# Altium footprint library Personal Library (Z7V9G2@u.northwestern.edu 2).PcbLib: 21 footprints (part 1 of 2)
Each footprint in its own frame and in the unit in brackets; x right, y up, seen from the top. Pads: shape width x height; smd on the part's side, far side on the other; paste and mask are expansions set on the pad; w line width, h text height; cw(c..) or ccw(c..) is an arc to the next point about the centre after c.
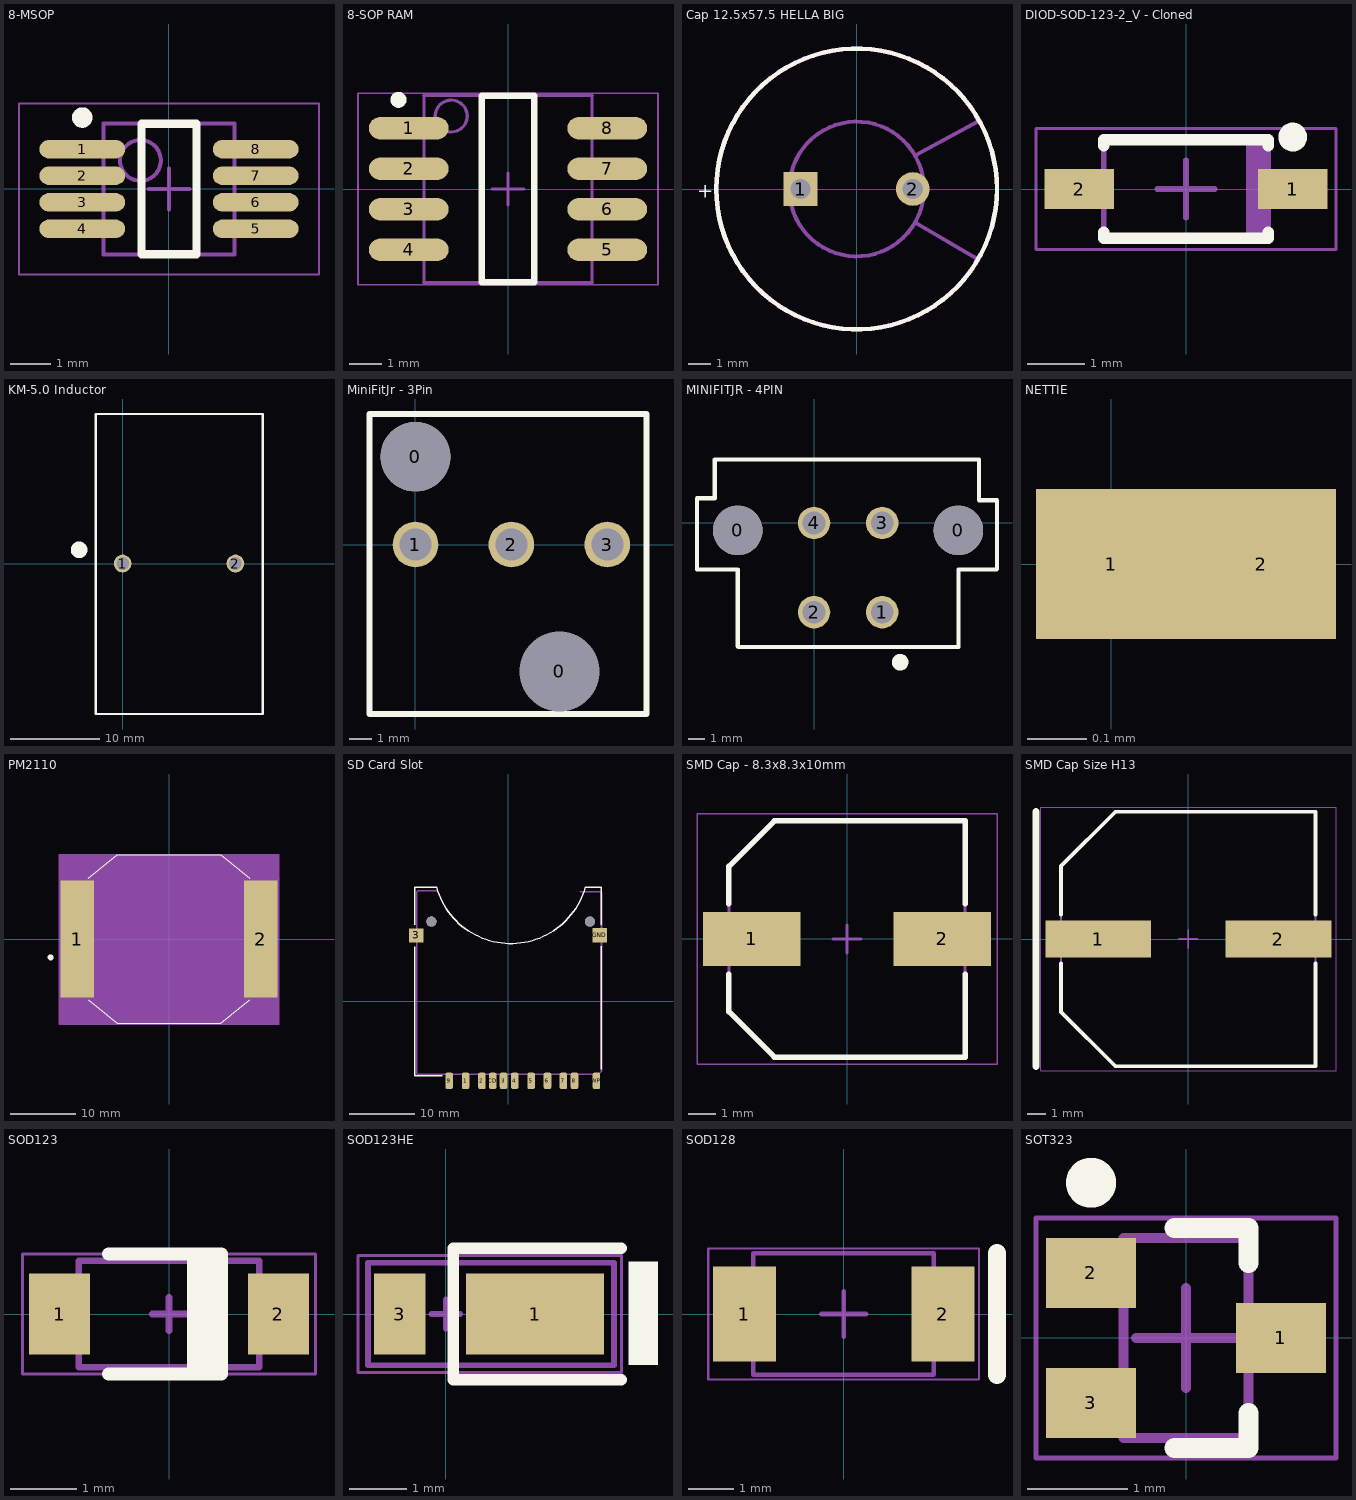
[diagram p0: the footprints below, top view; thin cyan lines are the x and y axes]

## 8-MSOP [mm] "SOP, 8-Leads, Body 3x3mm, Pitch 0.65mm, IPC Low Density"
height 1.1
pads (8):
  oval 2.1x0.45 smd: 1(-2.125,0.975) 2(-2.125,0.325) 3(-2.125,-0.325) 4(-2.125,-0.975) 5(2.125,-0.975) 6(2.125,-0.325) 7(2.125,0.325) 8(2.125,0.975)
Top Overlay:
  circle w0.25: c-2.125,1.75 r0.125
  lines w0.2: -0.675,-1.6 0.675,-1.6 0.675,1.6 -0.675,1.6 -0.675,-1.6
Mechanical 13:
  circle w0.1: c-0.7,0.7 r0.5
  lines w0.1: -1.6,-1.6 1.6,-1.6 1.6,1.6 -1.6,1.6 -1.6,-1.6
Mechanical 15:
  lines w0.05: -3.675,-2.1 3.675,-2.1 3.675,2.1 -3.675,2.1 -3.675,-2.1
  lines w0.1: -0.5,0 0.5,0 ; 0,-0.5 0,0.5
3D body: height 1.1, standoff 0, extent -1.6,-1.6 1.6,1.6

## 8-SOP RAM [mm] "SOP, 8-Leads, Body 5.3x5.85mm, Pitch 1.27mm, IPC Low Density"
height 1.75
pads (8):
  oval 2.5x0.7 smd: 1(-3.11,1.905) 2(-3.11,0.635) 3(-3.11,-0.635) 4(-3.11,-1.905) 5(3.11,-1.905) 6(3.11,-0.635) 7(3.11,0.635) 8(3.11,1.905)
Top Overlay:
  circle w0.25: c-3.429,2.794 r0.125
  lines w0.2: -0.825,-2.925 0.825,-2.925 0.825,2.925 -0.825,2.925 -0.825,-2.925
Mechanical 13:
  circle w0.1: c-1.778,2.286 r0.5
  lines w0.1: -2.65,-2.925 2.65,-2.925 ; -2.65,2.925 2.65,2.925 ; -2.635,-2.925 -2.635,2.921 ; 2.635,-2.925 2.635,2.925
Mechanical 15:
  lines w0.05: -4.699,-3 4.699,-3 4.699,3 -4.699,3 -4.699,-3
  lines w0.1: -0.5,0 0.5,0 ; 0,-0.5 0,0.5
3D body: height 1.5, standoff 0.18, extent -2.667,-2.921 2.667,2.921

## Cap 12.5x57.5 HELLA BIG [mm] "Capacitor, Electrolytic, Radial; Body 12.5 x 57.5 mm (Dia.xH typ); Pin Spacing 5 mm (typ)"
height 58
pads (2):
  rect 1.5x1.5 hole 0.9: 1(-2.5,0)
  round 1.5 hole 0.9: 2(2.5,0)
Top Overlay:
  circle w0.2: c0,0 r6.25
  text "+" at -7.112,-0.381 h0.64
Mechanical 5:
  circle w0.2: c0,0 r6.25
  text "+" at -7.112,-0.381 h0.64
  text ".Designator" at -7.366,1.27 h0.64
Mechanical 13:
  circle w0.178: c2.5,0 r0.3
  circle w0.178: c-2.5,0 r0.3
  circle w0.178: c0,0 r3
  lines w0.178: 2.623,-1.5 5.277,-3.055 ; 2.623,1.5 5.461,3.048 ; 4.977,3.78 ccw(c0,0) 5.054,-3.678
3D body: height 1, standoff -2.54, extent 2.201,-0.299 2.799,0.299
3D body: height 1, standoff -2.54, extent -2.799,-0.299 -2.201,0.299
3D body: height 57.5, standoff 0, extent -2.999,-2.999 2.999,2.999
3D body: height 57.5, standoff 0, extent 2.597,-3.089 6.162,3.09
3D body: height 57.5, standoff 0, extent -6.226,-6.181 5.3,6.187

## DIOD-SOD-123-2_V - Cloned [mm] "SOD-123, 2-Leads, Body 2.85x1.7mm (max), Pitch 3.7mm"
height 1.45
pads (2):
  rect 1.2x0.7 smd: 1(1.85,0) 2(-1.85,0)
Top Overlay:
  circle w0.25: c1.85,0.9 r0.125
  lines w0.2: -1.425,-0.75 -1.425,-0.85 1.425,-0.85 1.425,-0.75 ; -1.425,0.75 -1.425,0.85 1.425,0.85 1.425,0.75
Mechanical 13:
  rectangle: 1.042,-0.85 1.425,0.85
  lines w0.1: -1.425,-0.85 -1.425,0.85 1.425,0.85 1.425,-0.85 -1.425,-0.85
Mechanical 15:
  lines w0.05: -2.6,-1.05 -2.6,1.05 2.6,1.05 2.6,-1.05 -2.6,-1.05
  lines w0.1: -0.5,0 0.5,0 ; 0,-0.5 0,0.5
3D body: height 1.45, standoff 0, extent -1.425,-0.85 1.425,0.85

## KM-5.0 Inductor [mm] "KM-5.0 Inductor, 35.5mm height, 32.02x18.03mm"
height 35.6
pads (2):
  round 2 hole 1.42: 1(0,0) 2(12.7,0)
Top Overlay:
  circle w1: c-4.902,1.549 r0.431
  lines w0.254: -3.023,-16.942 15.773,-16.942 15.773,16.84 -3.023,16.84 -3.023,-16.942
3D body: height 35.56, standoff 3, extent -2.616,-16.332 15.342,16.383

## MiniFitJr - 3Pin [mm]
height 12.45
pads (5):
  round 3.05 hole 3.05: 0(0,3.85)
  round 3.05 hole 3.5: 0(6.3,-5.55)
  round 2 hole 1.4: 1(0,0) 2(4.2,0) 3(8.4,0)
Top Overlay:
  lines w0.254: -2.007,-7.417 10.109,-7.417 10.109,5.715 6.071,5.715 -0.584,5.715 -2.007,5.715 -2.007,-7.417
3D body "039302031.stp": height 12.45, standoff -3.5, extent -2.624,-6.668 11.176,4.89
3D body: height 0.25, standoff 0, extent 0.61,-5.004 0.61,-5.004
3D body: height 0.25, standoff 0, extent 0.127,-5.817 0.127,-5.817
3D body: height 0.25, standoff 0, extent 4.623,2.87 4.623,2.87

## MINIFITJR - 4PIN [mm]
height 12.8
pads (6):
  round 3.05 hole 3.05: 0(-4.7,-0.46) 0(8.9,-0.46)
  round 2 hole 1.4: 1(4.2,-5.5) 2(0,-5.5) 3(4.2,0) 4(0,0)
Top Overlay:
  circle w0.254: c5.309,-8.585 r0.076
  circle w0.254: c5.309,-8.585 r0.218
  circle w0.254: c5.309,-8.585 r0.388
  lines w0.254: -7.214,1.499 -7.214,-2.87 -4.699,-2.87 ; -7.214,1.524 -6.121,1.524 -6.121,3.912 10.16,3.912 10.16,1.397 ; -4.7,-2.87 -4.7,-7.594 -4.674,-7.62 ; -4.674,-7.645 8.9,-7.645 ; 8.9,-7.635 8.9,-2.87 11.252,-2.87 11.278,-2.845 11.278,1.397 10.185,1.397
3D body: height 0.25, standoff 0, extent 4.623,2.87 4.623,2.87
3D body: height 0.25, standoff 0, extent 0.127,-5.817 0.127,-5.817
3D body: height 0.25, standoff 0, extent 0.61,-5.004 0.61,-5.004
3D body "MiniFitJr4.stp": height 12.8, standoff -3.5, extent -6.131,-7.721 10.247,3.279

## NETTIE [mil] "NETTIEBITCH"
pads (2):
  rect 10x10 smd mask+10: 1(0,0)
  rect 10x10 smd: 2(10,0)
Top Layer:
  lines w10: 0,0 10,0

## PM2110 [mm] "Inductor"
pads (2):
  rect 5.08x17.78 smd paste+0 mask+0: 1(-13.97,0) 2(13.97,0)
Top Overlay:
  circle w0.762: c-18.034,-2.794 r0.076
  lines w0.152: -12.271,-9.223 -7.874,-12.827 7.874,-12.827 12.271,-9.223 ; -12.271,9.223 -7.874,12.827 7.874,12.827 12.271,9.223
Mechanical 13:
  circle w0: c-15.113,0 r0.076
  lines w0.025: -15.494,-6.35 -15.494,6.35 -7.747,12.7 7.747,12.7 15.494,6.35 15.494,-6.35 7.747,-12.7 -7.747,-12.7 -15.494,-6.35
Mechanical 15:
  region: -16.764,-9.144 -16.764,9.144 -11.938,12.954 11.938,12.954 16.764,9.144 16.764,-9.144 11.938,-12.954 -11.938,-12.954
  region: 16.764,-12.954 -16.764,-12.954 -16.764,12.954 16.764,12.954
  lines w0.152: -16.764,-12.954 16.764,-12.954 16.764,12.954 -16.764,12.954 -16.764,-12.954 ; -16.764,-9.144 -11.938,-12.954 11.938,-12.954 16.764,-9.144 16.764,9.144 11.938,12.954 -11.938,12.954 -16.764,9.144 -16.764,-9.144
3D body: height 15.24, standoff 0.1, extent -15.113,-12.7 15.621,12.7
3D body: height 0.25, standoff 0, extent 0,0 0.254,0.254

## SD Card Slot [mm] "SD Card Socket"
pads (15):
  rrect50% 1.16x2.5 smd: 1(-6.48,-12.15) 2(-3.98,-12.15) 3(-0.68,-12.15) 4(1.03,-12.15) 5(3.53,-12.15) 6(6.03,-12.15) 7(8.45,-12.15) 8(10.15,-12.15) 9(-8.98,-12.15) CD(-2.33,-12.15) WP(13.5,-12.15)
  rect 2.2x2.134 smd: 3(-14,10.05)
  rect 2.2x2.2 smd: GND(14,10.05)
  round 1.55 hole 1.55 unplated: MH1(12.5,12.15) MH2(-11.7,12.15)
Top Overlay:
  lines w0.2: -14.22,8.3 -14.22,-11.4 -10,-11.4 ; -14.22,11.7 -14.22,17.391 -14.216,17.396 -10.915,17.396 ccw(c0.441,20.6) 11.799,17.4 14.22,17.4 14.22,11.7 ; 14.22,-10.4 14.22,8.4
Mechanical 1:
  lines w0.254: -13.848,-11.146 13.813,-11.146
Mechanical 13:
  lines w0.254: -13.919,-11.024 -13.919,16.662 -13.716,16.866 -10.871,16.866 ; 11.024,16.739 14.122,16.739 14.275,16.586 14.275,-10.684 13.813,-11.146
3D body: height 2.38, standoff 0, extent 13.105,-12.426 13.303,-11.468
3D body: height 2.4, standoff 2, extent 13.108,-12.426 13.299,-9.243
3D body: height 2.4, standoff 2, extent 9.826,-11.996 10.419,-8.813
3D body: height 2.38, standoff 0, extent 9.826,-11.996 10.419,-11.375
3D body: height 0.3, standoff 0, extent 9.831,-12.476 10.419,-11.558
3D body: height 2.4, standoff 2, extent 8.189,-11.996 8.782,-8.813
3D body: height 2.38, standoff 0, extent 8.189,-11.996 8.782,-11.375
3D body: height 0.3, standoff 0, extent 8.194,-12.476 8.782,-11.558
3D body: height 2.4, standoff 2, extent 5.726,-12.055 6.319,-8.872
3D body: height 2.38, standoff 0, extent 5.726,-12.055 6.319,-11.434
3D body: height 0.3, standoff 0, extent 5.731,-12.535 6.319,-11.617
3D body: height 2.4, standoff 2, extent 3.174,-12.055 3.767,-8.872
3D body: height 2.38, standoff 0, extent 3.174,-12.055 3.767,-11.434
3D body: height 0.3, standoff 0, extent 3.179,-12.535 3.767,-11.617
3D body: height 2.4, standoff 2, extent 0.741,-12.084 1.334,-8.901
3D body: height 2.38, standoff 0, extent 0.741,-12.084 1.334,-11.463
3D body: height 0.3, standoff 0, extent 0.746,-12.564 1.334,-11.646
3D body: height 2.4, standoff 2, extent -0.941,-12.099 -0.348,-8.916
3D body: height 2.38, standoff 0, extent -0.941,-12.099 -0.348,-11.478
3D body: height 0.3, standoff 0, extent -0.936,-12.579 -0.348,-11.661
3D body: height 2.4, standoff 2, extent -2.578,-12.261 -1.985,-9.078
3D body: height 2.38, standoff 0, extent -2.578,-12.261 -1.985,-11.64
3D body: height 0.3, standoff 0, extent -2.573,-12.741 -1.985,-11.823
3D body: height 2.4, standoff 2, extent -4.274,-12.114 -3.681,-8.931
3D body: height 2.38, standoff 0, extent -4.274,-12.114 -3.681,-11.493
3D body: height 0.3, standoff 0, extent -4.269,-12.594 -3.681,-11.676
3D body: height 2.4, standoff 2, extent -6.737,-12.158 -6.144,-8.975
3D body: height 2.38, standoff 0, extent -6.737,-12.158 -6.144,-11.537
3D body: height 0.3, standoff 0, extent -6.732,-12.638 -6.144,-11.72
3D body: height 2.8, standoff 0, extent 13.997,-9.117 14.222,-8.169
3D body: height 2.8, standoff 0, extent -14.316,9.408 -14,10.435
3D body: height 2.8, standoff 0, extent 13.79,8.869 14.214,11.321
3D body: height 2, standoff 0, extent -13.854,7.771 -13.597,16.285
3D body: height 2.9, standoff 0, extent -13.864,-11.131 -13.459,7.804
3D body: height 2.9, standoff 0, extent -6.383,-11.215 -1.965,-9.929
3D body: height 2.9, standoff 0, extent 1.13,-11.166 4.663,-9.85
3D body: height 2.9, standoff 0, extent 8.812,-11.288 13.049,-9.658
3D body: height 2.8, standoff 0, extent -13.519,-11.146 13.951,-10.009
3D body: height 2, standoff 0.3, extent 13.952,-8.17 14.319,16.403
3D body: height 0.3, standoff 0, extent -9.258,-12.602 -8.67,-11.684
3D body: height 2.38, standoff 0, extent -9.263,-12.122 -8.67,-11.501
3D body: height 2.4, standoff 2, extent -9.263,-12.122 -8.67,-8.939
3D body: height 0.3, standoff 0, extent 13.108,-12.406 13.954,-11.463
3D body "SD card.stp": height 2.23, standoff 0.13, extent -12.088,-10.471 11.912,21.529
3D body: height 0.89, standoff 0.03, extent -13.959,-11.026 14.159,16.685
3D body: height 2.9, standoff 2.59, extent -13.97,-10.871 14.402,17.018

## SMD Cap - 8.3x8.3x10mm [mm] "Aluminum Electrolytic Capacitor, Body 8.5x8.5x10.80mm, IPC High Density"
height 10.8
pads (2):
  rect 3.5x1.95 smd: 1(-3.425,0) 2(3.425,0)
Top Overlay:
  lines w0.2: -4.25,-1.275 -4.25,-2.613 -2.612,-4.25 4.25,-4.25 4.25,-1.275 ; -4.25,1.275 -4.25,2.612 -2.612,4.25 4.25,4.25 4.25,1.275
Mechanical 13:
  lines w0.1: -4.25,-2.613 -2.612,-4.25 4.25,-4.25 4.25,4.25 -2.612,4.25 -4.25,2.612 -4.25,-2.613
Mechanical 15:
  lines w0.05: -5.4,-4.5 -5.4,4.5 5.4,4.5 5.4,-4.5 -5.4,-4.5
  lines w0.1: -0.5,0 0.5,0 ; 0,-0.5 0,0.5
3D body "CAPAE9383X108L.step": height 10.8, standoff 0, extent -4.65,-4.25 4.65,4.25

## SMD Cap Size H13 [mm] "CAPAE, 2-Leads, Body 13.70x13.70mm"
height 14
pads (2):
  rect 5.7x2 smd: 1(-4.85,0) 2(4.85,0)
Top Overlay:
  lines w0.2: -6.85,-1.3 -6.85,-3.925 -3.925,-6.85 6.85,-6.85 6.85,-1.3 ; -6.85,1.3 -6.85,3.925 -3.925,6.85 6.85,6.85 6.85,1.3
  lines w0.4: -8.2,-6.85 -8.2,6.85
Mechanical 13:
  lines w0.1: -6.85,-3.925 -3.925,-6.85 6.85,-6.85 6.85,6.85 -3.925,6.85 -6.85,3.925 -6.85,-3.925
Mechanical 15:
  lines w0.05: -7.95,-7.1 -7.95,7.1 7.95,7.1 7.95,-7.1 -7.95,-7.1
  lines w0.1: -0.5,0 0.5,0 ; 0,-0.5 0,0.5
3D body "CAPAE150135X140L.step": height 14, standoff 0, extent -7.5,-6.85 7.5,6.85

## SOD123 [mil] "SOD123, 2-Leads, Body 2.7x1.6mm, Height 1.35mm"
height 53.15
pads (2):
  rect 35.98x47.99 smd: 1(-64.5,0) 2(64.5,0)
Top Overlay:
  rectangle: 10.75,-35.43 30.75,35.43
  lines w7.87: -35.67,-35.43 30.75,-35.43 30.75,35.43 -35.67,35.43
Mechanical 13:
  lines w3.94: -53.15,-31.5 -53.15,31.5 53.15,31.5 53.15,-31.5 -53.15,-31.5
Mechanical 15:
  lines w1.97: -86.42,-35.43 -86.42,35.43 86.42,35.43 86.42,-35.43 -86.42,-35.43
  lines w3.94: -9.84,0 9.84,0 ; 0,-9.84 0,9.84
3D body: height 53.15, standoff 0, extent -53.15,-31.5 53.15,31.5

## SOD123HE [mm] "SOD123, 2-Leads, Body 2.7x1.6mm, Height 1.35mm"
height 1.35
pads (2):
  rect 2.4x1.4 smd: 1(1.55,0)
  rect 0.9x1.4 smd: 3(-0.8,0)
Top Overlay:
  rectangle: 3.175,-0.889 3.683,0.911
  lines w0.2: 3.048,-1.143 0.127,-1.143 0.127,1.143 3.048,1.143
Mechanical 13:
  lines w0.1: -1.35,-0.889 2.921,-0.889 2.921,0.889 -1.35,0.889 -1.35,-0.889
Mechanical 15:
  lines w0.05: -1.524,-1.016 3.048,-1.016 3.048,1.016 -1.524,1.016 -1.524,-1.016
  lines w0.1: -0.25,0 0.25,0 ; 0,-0.25 0,0.25
3D body: height 0.75, standoff 0, extent -1.143,-0.908 2.54,0.908

## SOD128 [mm] "SOD128, 2-Leads, Body 2.7x4mm"
height 1.1
pads (2):
  rect 1.4x2.1 smd: 1(-2.2,0) 2(2.2,0)
Top Overlay:
  lines w0.4: 3.4,-1.35 3.4,1.35
Mechanical 13:
  lines w0.1: -2,-1.35 2,-1.35 2,1.35 -2,1.35 -2,-1.35
Mechanical 15:
  lines w0.05: -3,-1.45 3,-1.45 3,1.45 -3,1.45 -3,-1.45
  lines w0.1: -0.5,0 0.5,0 ; 0,-0.5 0,0.5
3D body "SODFL_NXP-SOD128.stp": height 1.1, standoff 0, extent -2.35,-1.25 2.35,1.25

## SOT323 [mm] "SOT23, 3-Leads, Body 2x1.25mm, Pitch 0.65mm"
height 1
pads (3):
  rect 0.9x0.7 smd: 1(0.95,0) 2(-0.95,0.65) 3(-0.95,-0.65)
Top Overlay:
  circle w0.25: c-0.95,1.55 r0.125
  lines w0.2: -0.113,-1.1 0.625,-1.1 0.625,-0.75 ; -0.113,1.1 0.625,1.1 0.625,0.75
Mechanical 13:
  lines w0.1: -0.625,-1 -0.625,1 0.625,1 0.625,-1 -0.625,-1
Mechanical 15:
  lines w0.05: -1.5,-1.2 -1.5,1.2 1.5,1.2 1.5,-1.2 -1.5,-1.2
  lines w0.1: -0.5,0 0.5,0 ; 0,-0.5 0,0.5
3D body: height 1, standoff 0, extent -0.625,-1 0.625,1